# Altium schematic symbol library OPA129.Schlib: 1 symbol
Pins are listed as number, name and electrical type; pins without a type are passive.

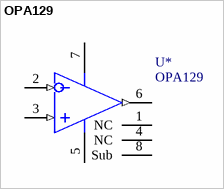
[diagram p0: symbol OPA129]

## OPA129
designator U*
Ultra-Low Bias Current Difet OpAmp; Назначение: Операционный усилитель; Наименование: OPA129
footprint SO-8
pins: 1 NC, 2 IN- (in), 3 IN+ (in), 4 NC, 5 V- (power), 6 OUT (out), 7 V+ (power), 8 Sub "Substrate"